# EAGLE library part TL072 (library jhbruhn-opamp)
Generic Dual Op Amp
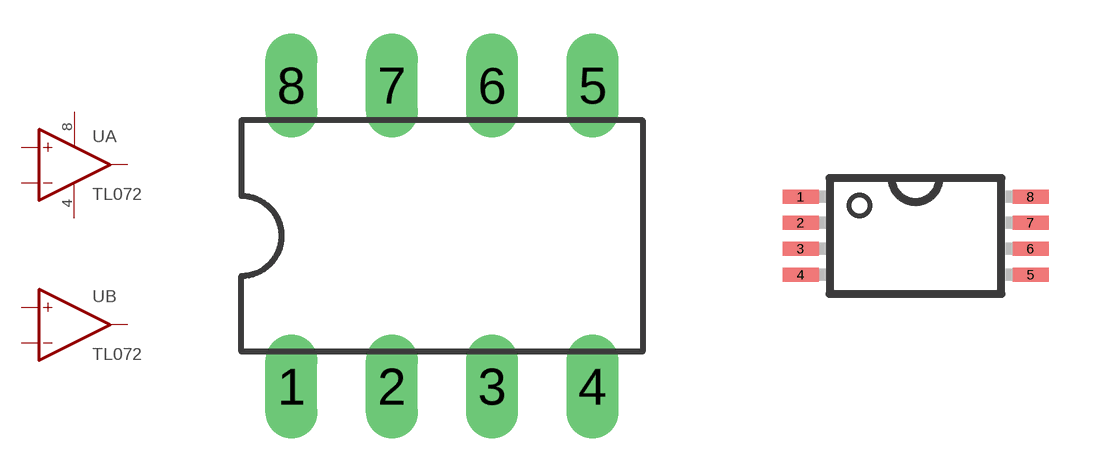
[diagram p2: symbol with the pads of DIL08; footprints DIL08, TSSOP-8]

Designator prefix U; gates A=OPAMP B=OPAMP P=PWR+-

## TL072AP, TL072BP, TL072CP, TL072DP, TL072MP  [DIL08]
1  A:OUT  out
2  A:-IN  in
3  A:+IN  in
4  P:V-  pwr
5  B:+IN  in
6  B:-IN  in
7  B:OUT  out
8  P:V+  pwr

## TL072APW, TL072BPW, TL072CPW, TL072DPW, TL072MPW  [TSSOP-8]
Pads as for DIL08

## TL072AD, TL072BD, TL072CD, TL072DD, TL072MD  [SOIC8]
Pads as for DIL08

## Footprint DIL08 (pad centres in mm)
8 pin IC, DIP package
drill 0.813 pad 1.27 long: 1 -3.81,-3.81; 2 -1.27,-3.81; 3 1.27,-3.81; 4 3.81,-3.81; 5 3.81,3.81; 6 1.27,3.81; 7 -1.27,3.81; 8 -3.81,3.81

## Footprint TSSOP-8 (pad centres in mm)
8-Lead Thin Shrink Small Outline Package Source: http://www.analog.com/static/imported-files/data_sheets/AD8541_8542_8544.pdf
smd 0.9 x 0.35: 1 -2.875,0.975; 2 -2.875,0.325; 3 -2.875,-0.325; 4 -2.875,-0.975; 5 2.875,-0.975; 6 2.875,-0.325; 7 2.875,0.325; 8 2.875,0.975

## Footprint SOIC8 (pad centres in mm)
Small Outline IC
smd 0.6 x 2.2: 1 -1.905,-2.6; 2 -0.635,-2.6; 3 0.635,-2.6; 4 1.905,-2.6; 5 1.905,2.6; 6 0.635,2.6; 7 -0.635,2.6; 8 -1.905,2.6